# Altium integrated library Microchip Thermal Management.IntLib: 360 symbols (part 9 of 10)
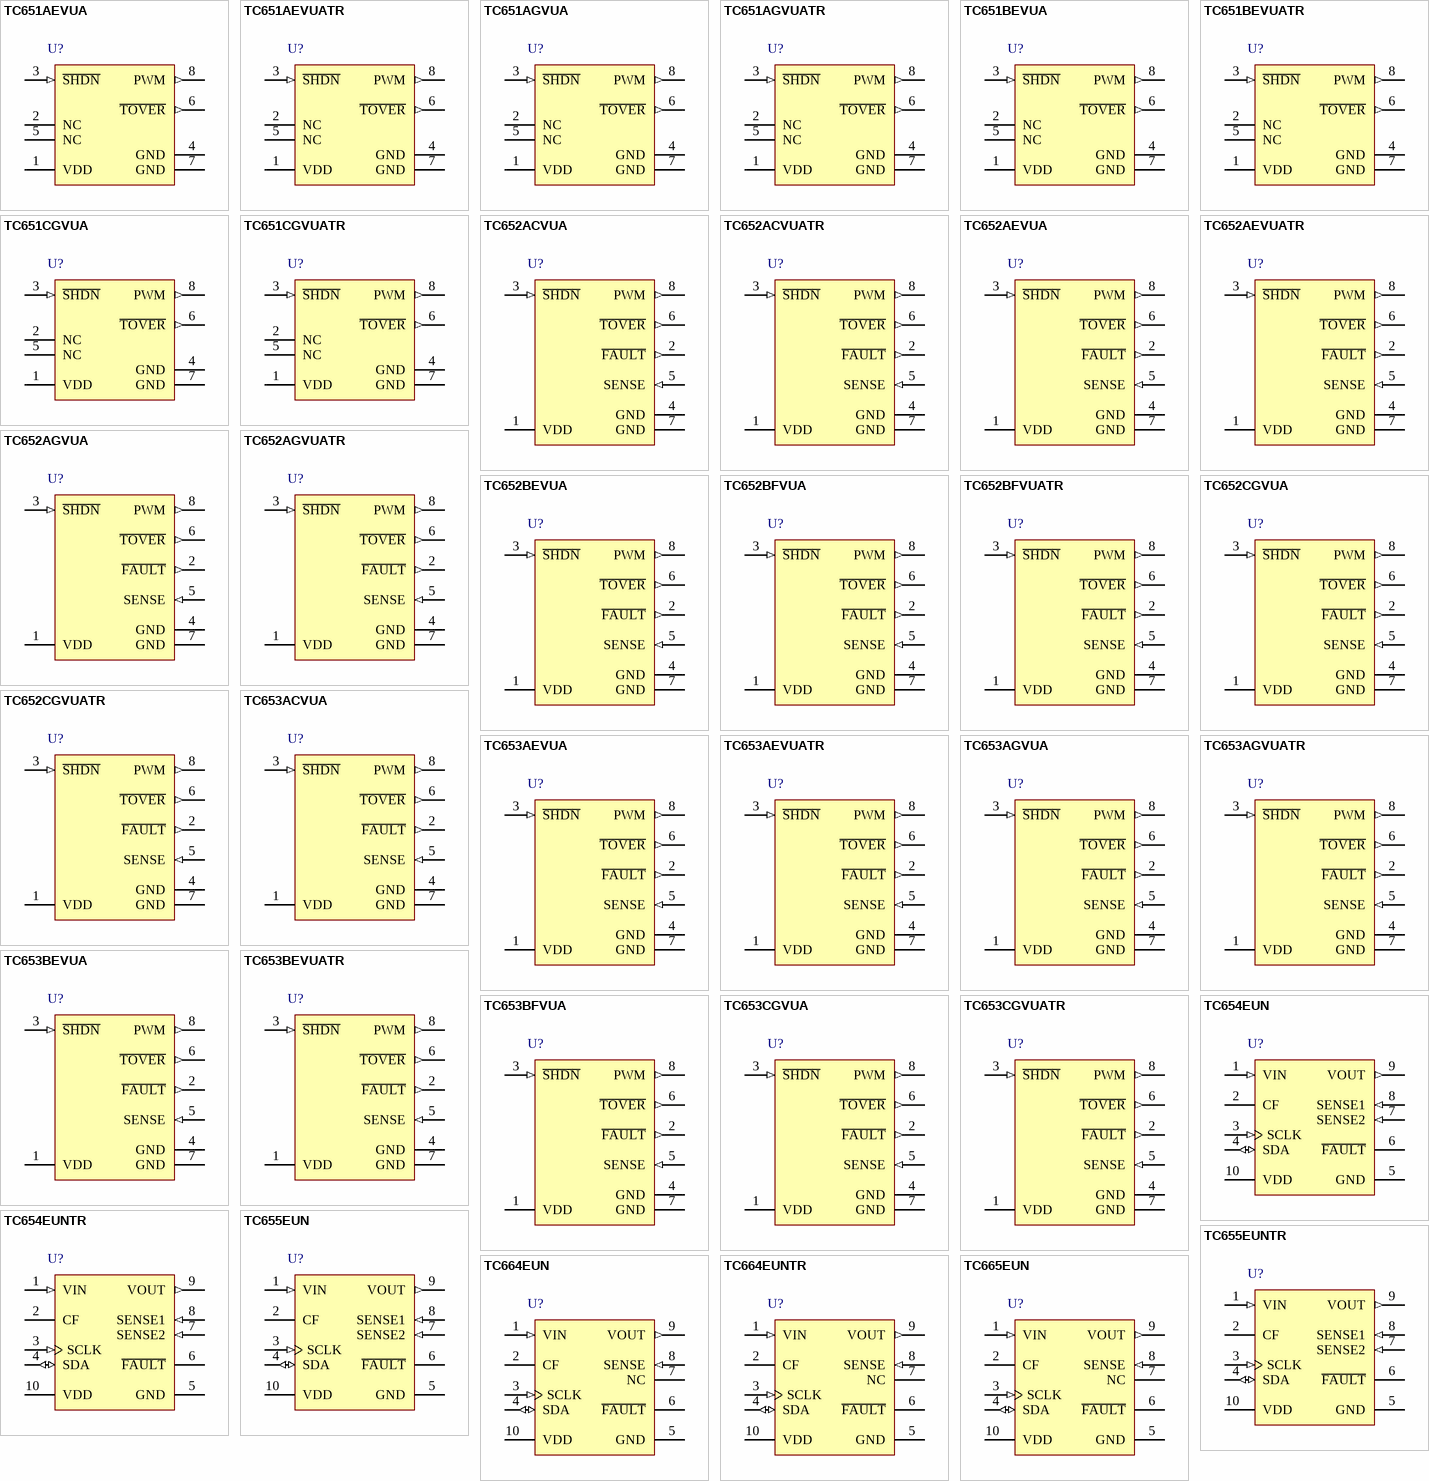
[diagram p17: symbols TC651AEVUA to TC665EUN]

## TC653AEVUATR
designator U?
Integrated Temperature Sensor & Brushless DC Fan Controller with FanSense Detect & Over-Temperature, 8-Pin MSOP, Extended Temperature, Tape and Reel; Manufacturer: Microchip; PartNumber: TC653AEVUATR; DatasheetVersion: revB, May-2002; PackageVersion: revBB, Aug-2009; PackageReference: MSOP-UA8; PackageDescription: 8-Lead Plastic Micro Small Outline Package (UA) [MSOP]; Supplier 1: Digi-Key; Supplier Part Number 1: TC653AEVUATR-ND; Supplier 2: Mouser; Supplier Part Number 2: 579-TC653AEVUATR; Mounting Technology: Surface Mount; Code_JEDEC: MO-187-AA; ComponentLink1Description: Manufacturer URL; ComponentLink1URL: http://www.microchip.com/; ComponentLink2Description: Datasheet; ComponentLink2URL: http://ww1.microchip.com/downloads/en/DeviceDoc/21452b.pdf; ComponentLink3Description: Package Specification; ComponentLink3URL: http://www.microchip.com/stellent/groups/techpub_sg/documents/packagingspec/en012702.pdf
footprint MSOP-UA8_N (TSOP, 8-Leads, Body 3x3mm, Pitch 0.65mm, IPC Medium Density)
footprint MSOP-UA8_L (TSOP, 8-Leads, Body 3x3mm, Pitch 0.65mm, IPC High Density)
footprint MSOP-UA8_M (TSOP, 8-Leads, Body 3x3mm, Pitch 0.65mm, IPC Low Density)
pins: 1 VDD (power), 2 ~{FAULT} (out), 3 ~{SHDN} (in), 4 GND (power), 5 SENSE (in), 6 ~{TOVER} (out), 7 GND (power), 8 PWM (out)

## TC653AGVUA
designator U?
Integrated Temperature Sensor & Brushless DC Fan Controller with FanSense Detect & Over-Temperature, 8-Pin MSOP, Extended Temperature; Manufacturer: Microchip; PartNumber: TC653AGVUA; DatasheetVersion: revB, May-2002; PackageVersion: revBB, Aug-2009; PackageReference: MSOP-UA8; PackageDescription: 8-Lead Plastic Micro Small Outline Package (UA) [MSOP]; Supplier 1: Digi-Key; Supplier Part Number 1: TC653AGVUA-ND; Supplier 2: Newark; Supplier Part Number 2: 92C6422; Supplier 3: Mouser; Supplier Part Number 3: 579-TC653AGVUA; Mounting Technology: Surface Mount; Code_JEDEC: MO-187-AA; ComponentLink1Description: Manufacturer URL; ComponentLink1URL: http://www.microchip.com/; ComponentLink2Description: Datasheet; ComponentLink2URL: http://ww1.microchip.com/downloads/en/DeviceDoc/21452b.pdf; ComponentLink3Description: Package Specification; ComponentLink3URL: http://www.microchip.com/stellent/groups/techpub_sg/documents/packagingspec/en012702.pdf
footprint MSOP-UA8_N (TSOP, 8-Leads, Body 3x3mm, Pitch 0.65mm, IPC Medium Density)
footprint MSOP-UA8_L (TSOP, 8-Leads, Body 3x3mm, Pitch 0.65mm, IPC High Density)
footprint MSOP-UA8_M (TSOP, 8-Leads, Body 3x3mm, Pitch 0.65mm, IPC Low Density)
pins: 1 VDD (power), 2 ~{FAULT} (out), 3 ~{SHDN} (in), 4 GND (power), 5 SENSE (in), 6 ~{TOVER} (out), 7 GND (power), 8 PWM (out)

## TC653AGVUATR
designator U?
Integrated Temperature Sensor & Brushless DC Fan Controller with FanSense Detect & Over-Temperature, 8-Pin MSOP, Extended Temperature, Tape and Reel; Manufacturer: Microchip; PartNumber: TC653AGVUATR; DatasheetVersion: revB, May-2002; PackageVersion: revBB, Aug-2009; PackageReference: MSOP-UA8; PackageDescription: 8-Lead Plastic Micro Small Outline Package (UA) [MSOP]; Supplier 1: Digi-Key; Supplier Part Number 1: TC653AGVUATR-ND; Supplier 2: Mouser; Supplier Part Number 2: 579-TC653AGVUATR; Mounting Technology: Surface Mount; Code_JEDEC: MO-187-AA; ComponentLink1Description: Manufacturer URL; ComponentLink1URL: http://www.microchip.com/; ComponentLink2Description: Datasheet; ComponentLink2URL: http://ww1.microchip.com/downloads/en/DeviceDoc/21452b.pdf; ComponentLink3Description: Package Specification; ComponentLink3URL: http://www.microchip.com/stellent/groups/techpub_sg/documents/packagingspec/en012702.pdf
footprint MSOP-UA8_N (TSOP, 8-Leads, Body 3x3mm, Pitch 0.65mm, IPC Medium Density)
footprint MSOP-UA8_L (TSOP, 8-Leads, Body 3x3mm, Pitch 0.65mm, IPC High Density)
footprint MSOP-UA8_M (TSOP, 8-Leads, Body 3x3mm, Pitch 0.65mm, IPC Low Density)
pins: 1 VDD (power), 2 ~{FAULT} (out), 3 ~{SHDN} (in), 4 GND (power), 5 SENSE (in), 6 ~{TOVER} (out), 7 GND (power), 8 PWM (out)

## TC653BEVUA
designator U?
Integrated Temperature Sensor & Brushless DC Fan Controller with FanSense Detect & Over-Temperature, 8-Pin MSOP, Extended Temperature; Manufacturer: Microchip; PartNumber: TC653BEVUA; DatasheetVersion: revB, May-2002; PackageVersion: revBB, Aug-2009; PackageReference: MSOP-UA8; PackageDescription: 8-Lead Plastic Micro Small Outline Package (UA) [MSOP]; Supplier 1: Digi-Key; Supplier Part Number 1: TC653BEVUA-ND; Supplier 2: Mouser; Supplier Part Number 2: 579-TC653BEVUA; Mounting Technology: Surface Mount; Code_JEDEC: MO-187-AA; ComponentLink1Description: Manufacturer URL; ComponentLink1URL: http://www.microchip.com/; ComponentLink2Description: Datasheet; ComponentLink2URL: http://ww1.microchip.com/downloads/en/DeviceDoc/21452b.pdf; ComponentLink3Description: Package Specification; ComponentLink3URL: http://www.microchip.com/stellent/groups/techpub_sg/documents/packagingspec/en012702.pdf
footprint MSOP-UA8_N (TSOP, 8-Leads, Body 3x3mm, Pitch 0.65mm, IPC Medium Density)
footprint MSOP-UA8_L (TSOP, 8-Leads, Body 3x3mm, Pitch 0.65mm, IPC High Density)
footprint MSOP-UA8_M (TSOP, 8-Leads, Body 3x3mm, Pitch 0.65mm, IPC Low Density)
pins: 1 VDD (power), 2 ~{FAULT} (out), 3 ~{SHDN} (in), 4 GND (power), 5 SENSE (in), 6 ~{TOVER} (out), 7 GND (power), 8 PWM (out)

## TC653BEVUATR
designator U?
Integrated Temperature Sensor & Brushless DC Fan Controller with FanSense Detect & Over-Temperature, 8-Pin MSOP, Extended Temperature, Tape and Reel; Manufacturer: Microchip; PartNumber: TC653BEVUATR; DatasheetVersion: revB, May-2002; PackageVersion: revBB, Aug-2009; PackageReference: MSOP-UA8; PackageDescription: 8-Lead Plastic Micro Small Outline Package (UA) [MSOP]; Supplier 1: Digi-Key; Supplier Part Number 1: TC653BEVUATR-ND; Supplier 2: Mouser; Supplier Part Number 2: 579-TC653BEVUATR; Mounting Technology: Surface Mount; Code_JEDEC: MO-187-AA; ComponentLink1Description: Manufacturer URL; ComponentLink1URL: http://www.microchip.com/; ComponentLink2Description: Datasheet; ComponentLink2URL: http://ww1.microchip.com/downloads/en/DeviceDoc/21452b.pdf; ComponentLink3Description: Package Specification; ComponentLink3URL: http://www.microchip.com/stellent/groups/techpub_sg/documents/packagingspec/en012702.pdf
footprint MSOP-UA8_N (TSOP, 8-Leads, Body 3x3mm, Pitch 0.65mm, IPC Medium Density)
footprint MSOP-UA8_L (TSOP, 8-Leads, Body 3x3mm, Pitch 0.65mm, IPC High Density)
footprint MSOP-UA8_M (TSOP, 8-Leads, Body 3x3mm, Pitch 0.65mm, IPC Low Density)
pins: 1 VDD (power), 2 ~{FAULT} (out), 3 ~{SHDN} (in), 4 GND (power), 5 SENSE (in), 6 ~{TOVER} (out), 7 GND (power), 8 PWM (out)

## TC653BFVUA
designator U?
Integrated Temperature Sensor & Brushless DC Fan Controller with FanSense Detect & Over-Temperature, 8-Pin MSOP, Extended Temperature; Manufacturer: Microchip; PartNumber: TC653BFVUA; DatasheetVersion: revB, May-2002; PackageVersion: revBB, Aug-2009; PackageReference: MSOP-UA8; PackageDescription: 8-Lead Plastic Micro Small Outline Package (UA) [MSOP]; Supplier 1: Digi-Key; Supplier Part Number 1: TC653BFVUA-ND; Supplier 2: Mouser; Supplier Part Number 2: 579-TC653BFVUA; Mounting Technology: Surface Mount; Code_JEDEC: MO-187-AA; ComponentLink1Description: Manufacturer URL; ComponentLink1URL: http://www.microchip.com/; ComponentLink2Description: Datasheet; ComponentLink2URL: http://ww1.microchip.com/downloads/en/DeviceDoc/21452b.pdf; ComponentLink3Description: Package Specification; ComponentLink3URL: http://www.microchip.com/stellent/groups/techpub_sg/documents/packagingspec/en012702.pdf
footprint MSOP-UA8_N (TSOP, 8-Leads, Body 3x3mm, Pitch 0.65mm, IPC Medium Density)
footprint MSOP-UA8_L (TSOP, 8-Leads, Body 3x3mm, Pitch 0.65mm, IPC High Density)
footprint MSOP-UA8_M (TSOP, 8-Leads, Body 3x3mm, Pitch 0.65mm, IPC Low Density)
pins: 1 VDD (power), 2 ~{FAULT} (out), 3 ~{SHDN} (in), 4 GND (power), 5 SENSE (in), 6 ~{TOVER} (out), 7 GND (power), 8 PWM (out)

## TC653CGVUA
designator U?
Integrated Temperature Sensor & Brushless DC Fan Controller with FanSense Detect & Over-Temperature, 8-Pin MSOP, Extended Temperature; Manufacturer: Microchip; PartNumber: TC653CGVUA; DatasheetVersion: revB, May-2002; PackageVersion: revBB, Aug-2009; PackageReference: MSOP-UA8; PackageDescription: 8-Lead Plastic Micro Small Outline Package (UA) [MSOP]; Supplier 1: Digi-Key; Supplier Part Number 1: TC653CGVUA-ND; Supplier 2: Newark; Supplier Part Number 2: 92C6429; Supplier 3: Mouser; Supplier Part Number 3: 579-TC653CGVUA; Mounting Technology: Surface Mount; Code_JEDEC: MO-187-AA; ComponentLink1Description: Manufacturer URL; ComponentLink1URL: http://www.microchip.com/; ComponentLink2Description: Datasheet; ComponentLink2URL: http://ww1.microchip.com/downloads/en/DeviceDoc/21452b.pdf; ComponentLink3Description: Package Specification; ComponentLink3URL: http://www.microchip.com/stellent/groups/techpub_sg/documents/packagingspec/en012702.pdf
footprint MSOP-UA8_N (TSOP, 8-Leads, Body 3x3mm, Pitch 0.65mm, IPC Medium Density)
footprint MSOP-UA8_L (TSOP, 8-Leads, Body 3x3mm, Pitch 0.65mm, IPC High Density)
footprint MSOP-UA8_M (TSOP, 8-Leads, Body 3x3mm, Pitch 0.65mm, IPC Low Density)
pins: 1 VDD (power), 2 ~{FAULT} (out), 3 ~{SHDN} (in), 4 GND (power), 5 SENSE (in), 6 ~{TOVER} (out), 7 GND (power), 8 PWM (out)

## TC653CGVUATR
designator U?
Integrated Temperature Sensor & Brushless DC Fan Controller with FanSense Detect & Over-Temperature, 8-Pin MSOP, Extended Temperature, Tape and Reel; Manufacturer: Microchip; PartNumber: TC653CGVUATR; DatasheetVersion: revB, May-2002; PackageVersion: revBB, Aug-2009; PackageReference: MSOP-UA8; PackageDescription: 8-Lead Plastic Micro Small Outline Package (UA) [MSOP]; Supplier 1: Digi-Key; Supplier Part Number 1: TC653CGVUATR-ND; Supplier 2: Newark; Supplier Part Number 2: 92C6430; Supplier 3: Mouser; Supplier Part Number 3: 579-TC653CGVUATR; Mounting Technology: Surface Mount; Code_JEDEC: MO-187-AA; ComponentLink1Description: Manufacturer URL; ComponentLink1URL: http://www.microchip.com/; ComponentLink2Description: Datasheet; ComponentLink2URL: http://ww1.microchip.com/downloads/en/DeviceDoc/21452b.pdf; ComponentLink3Description: Package Specification; ComponentLink3URL: http://www.microchip.com/stellent/groups/techpub_sg/documents/packagingspec/en012702.pdf
footprint MSOP-UA8_N (TSOP, 8-Leads, Body 3x3mm, Pitch 0.65mm, IPC Medium Density)
footprint MSOP-UA8_L (TSOP, 8-Leads, Body 3x3mm, Pitch 0.65mm, IPC High Density)
footprint MSOP-UA8_M (TSOP, 8-Leads, Body 3x3mm, Pitch 0.65mm, IPC Low Density)
pins: 1 VDD (power), 2 ~{FAULT} (out), 3 ~{SHDN} (in), 4 GND (power), 5 SENSE (in), 6 ~{TOVER} (out), 7 GND (power), 8 PWM (out)

## TC654EUN
designator U?
Dual SMBus PWM Fan Speed Controller with Fan Fault Detection, 10-Pin MSOP, Industrial Temperature; Manufacturer: Microchip; PartNumber: TC654EUN; DatasheetVersion: revA, Feb-2003; PackageVersion: revBB, Aug-2009; PackageReference: MSOP-UN10; PackageDescription: 10-Lead Plastic Micro Small Outline Package (UN) [MSOP]; Supplier 1: Digi-Key; Supplier Part Number 1: TC654EUN-ND; Supplier 2: Farnell; Supplier Part Number 2: 1852288; Supplier 3: Newark; Supplier Part Number 3: 72C4372; Supplier 4: Mouser; Supplier Part Number 4: 579-TC654EUN; Mounting Technology: Surface Mount; ComponentLink1Description: Manufacturer URL; ComponentLink1URL: http://www.microchip.com/; ComponentLink2Description: Datasheet; ComponentLink2URL: http://ww1.microchip.com/downloads/en/DeviceDoc/21734a.pdf; ComponentLink3Description: Package Specification; ComponentLink3URL: http://www.microchip.com/stellent/groups/techpub_sg/documents/packagingspec/en012702.pdf
footprint MSOP-UN10_N (TSSOP, 10-Leads, Body 3x3mm, Pitch 0.5mm, IPC Medium Density)
footprint MSOP-UN10_L (TSSOP, 10-Leads, Body 3x3mm, Pitch 0.5mm, IPC High Density)
footprint MSOP-UN10_M (TSSOP, 10-Leads, Body 3x3mm, Pitch 0.5mm, IPC Low Density)
pins: 1 VIN (in), 2 CF, 3 SCLK (in), 4 SDA (io), 5 GND (power), 6 ~{FAULT} (oc), 7 SENSE2 (in), 8 SENSE1 (in), 9 VOUT (out), 10 VDD (power)

## TC654EUNTR
designator U?
Dual SMBus PWM Fan Speed Controller with Fan Fault Detection, 10-Pin MSOP, Industrial Temperature, Tape and Reel; Manufacturer: Microchip; PartNumber: TC654EUNTR; DatasheetVersion: revA, Feb-2003; PackageVersion: revBB, Aug-2009; PackageReference: MSOP-UN10; PackageDescription: 10-Lead Plastic Micro Small Outline Package (UN) [MSOP]; Supplier 1: Digi-Key; Supplier Part Number 1: TC654EUNTR-ND; Supplier 2: Newark; Supplier Part Number 2: 72C4373; Supplier 3: Mouser; Supplier Part Number 3: 579-TC654EUNTR; Mounting Technology: Surface Mount; ComponentLink1Description: Manufacturer URL; ComponentLink1URL: http://www.microchip.com/; ComponentLink2Description: Datasheet; ComponentLink2URL: http://ww1.microchip.com/downloads/en/DeviceDoc/21734a.pdf; ComponentLink3Description: Package Specification; ComponentLink3URL: http://www.microchip.com/stellent/groups/techpub_sg/documents/packagingspec/en012702.pdf
footprint MSOP-UN10_N (TSSOP, 10-Leads, Body 3x3mm, Pitch 0.5mm, IPC Medium Density)
footprint MSOP-UN10_L (TSSOP, 10-Leads, Body 3x3mm, Pitch 0.5mm, IPC High Density)
footprint MSOP-UN10_M (TSSOP, 10-Leads, Body 3x3mm, Pitch 0.5mm, IPC Low Density)
pins: 1 VIN (in), 2 CF, 3 SCLK (in), 4 SDA (io), 5 GND (power), 6 ~{FAULT} (oc), 7 SENSE2 (in), 8 SENSE1 (in), 9 VOUT (out), 10 VDD (power)

## TC655EUN
designator U?
Dual SMBus PWM Fan Speed Controller with Fan Fault Detection, 10-Pin MSOP, Industrial Temperature; Manufacturer: Microchip; PartNumber: TC655EUN; DatasheetVersion: revA, Feb-2003; PackageVersion: revBB, Aug-2009; PackageReference: MSOP-UN10; PackageDescription: 10-Lead Plastic Micro Small Outline Package (UN) [MSOP]; Supplier 1: Digi-Key; Supplier Part Number 1: TC655EUN-ND; Supplier 2: Farnell; Supplier Part Number 2: 1852289; Supplier 3: Newark; Supplier Part Number 3: 72C4374; Supplier 4: Mouser; Supplier Part Number 4: 579-TC655EUN; Mounting Technology: Surface Mount; ComponentLink1Description: Manufacturer URL; ComponentLink1URL: http://www.microchip.com/; ComponentLink2Description: Datasheet; ComponentLink2URL: http://ww1.microchip.com/downloads/en/DeviceDoc/21734a.pdf; ComponentLink3Description: Package Specification; ComponentLink3URL: http://www.microchip.com/stellent/groups/techpub_sg/documents/packagingspec/en012702.pdf
footprint MSOP-UN10_N (TSSOP, 10-Leads, Body 3x3mm, Pitch 0.5mm, IPC Medium Density)
footprint MSOP-UN10_L (TSSOP, 10-Leads, Body 3x3mm, Pitch 0.5mm, IPC High Density)
footprint MSOP-UN10_M (TSSOP, 10-Leads, Body 3x3mm, Pitch 0.5mm, IPC Low Density)
pins: 1 VIN (in), 2 CF, 3 SCLK (in), 4 SDA (io), 5 GND (power), 6 ~{FAULT} (oc), 7 SENSE2 (in), 8 SENSE1 (in), 9 VOUT (out), 10 VDD (power)

## TC655EUNTR
designator U?
Dual SMBus PWM Fan Speed Controller with Fan Fault Detection, 10-Pin MSOP, Industrial Temperature, Tape and Reel; Manufacturer: Microchip; PartNumber: TC655EUNTR; DatasheetVersion: revA, Feb-2003; PackageVersion: revBB, Aug-2009; PackageReference: MSOP-UN10; PackageDescription: 10-Lead Plastic Micro Small Outline Package (UN) [MSOP]; Supplier 1: Digi-Key; Supplier Part Number 1: TC655EUNTR-ND; Supplier 2: Mouser; Supplier Part Number 2: 579-TC655EUNTR; Mounting Technology: Surface Mount; ComponentLink1Description: Manufacturer URL; ComponentLink1URL: http://www.microchip.com/; ComponentLink2Description: Datasheet; ComponentLink2URL: http://ww1.microchip.com/downloads/en/DeviceDoc/21734a.pdf; ComponentLink3Description: Package Specification; ComponentLink3URL: http://www.microchip.com/stellent/groups/techpub_sg/documents/packagingspec/en012702.pdf
footprint MSOP-UN10_N (TSSOP, 10-Leads, Body 3x3mm, Pitch 0.5mm, IPC Medium Density)
footprint MSOP-UN10_L (TSSOP, 10-Leads, Body 3x3mm, Pitch 0.5mm, IPC High Density)
footprint MSOP-UN10_M (TSSOP, 10-Leads, Body 3x3mm, Pitch 0.5mm, IPC Low Density)
pins: 1 VIN (in), 2 CF, 3 SCLK (in), 4 SDA (io), 5 GND (power), 6 ~{FAULT} (oc), 7 SENSE2 (in), 8 SENSE1 (in), 9 VOUT (out), 10 VDD (power)

## TC664EUN
designator U?
SMBus PWM Fan Speed Controllers with Fan Fault Detection, 10-Pin MSOP, Industrial Temperature; Manufacturer: Microchip; PartNumber: TC664EUN; DatasheetVersion: revA, Feb-2003; PackageVersion: revBB, Aug-2009; PackageReference: MSOP-UN10; PackageDescription: 10-Lead Plastic Micro Small Outline Package (UN) [MSOP]; Supplier 1: Digi-Key; Supplier Part Number 1: TC664EUN-ND; Supplier 2: Farnell; Supplier Part Number 2: 1852290; Supplier 3: Newark; Supplier Part Number 3: 92C6431; Supplier 4: Mouser; Supplier Part Number 4: 579-TC664EUN; Mounting Technology: Surface Mount; ComponentLink1Description: Manufacturer URL; ComponentLink1URL: http://www.microchip.com/; ComponentLink2Description: Datasheet; ComponentLink2URL: http://ww1.microchip.com/downloads/en/DeviceDoc/21737a.pdf; ComponentLink3Description: Package Specification; ComponentLink3URL: http://www.microchip.com/stellent/groups/techpub_sg/documents/packagingspec/en012702.pdf
footprint MSOP-UN10_N (TSSOP, 10-Leads, Body 3x3mm, Pitch 0.5mm, IPC Medium Density)
footprint MSOP-UN10_L (TSSOP, 10-Leads, Body 3x3mm, Pitch 0.5mm, IPC High Density)
footprint MSOP-UN10_M (TSSOP, 10-Leads, Body 3x3mm, Pitch 0.5mm, IPC Low Density)
pins: 1 VIN (in), 2 CF, 3 SCLK (in), 4 SDA (io), 5 GND (power), 6 ~{FAULT} (oc), 7 NC, 8 SENSE (in), 9 VOUT (out), 10 VDD (power)

## TC664EUNTR
designator U?
SMBus PWM Fan Speed Controllers with Fan Fault Detection, 10-Pin MSOP, Industrial Temperature, Tape and Reel; Manufacturer: Microchip; PartNumber: TC664EUNTR; DatasheetVersion: revA, Feb-2003; PackageVersion: revBB, Aug-2009; PackageReference: MSOP-UN10; PackageDescription: 10-Lead Plastic Micro Small Outline Package (UN) [MSOP]; Supplier 1: Digi-Key; Supplier Part Number 1: TC664EUNTR-ND; Supplier 2: Mouser; Supplier Part Number 2: 579-TC664EUNTR; Mounting Technology: Surface Mount; ComponentLink1Description: Manufacturer URL; ComponentLink1URL: http://www.microchip.com/; ComponentLink2Description: Datasheet; ComponentLink2URL: http://ww1.microchip.com/downloads/en/DeviceDoc/21737a.pdf; ComponentLink3Description: Package Specification; ComponentLink3URL: http://www.microchip.com/stellent/groups/techpub_sg/documents/packagingspec/en012702.pdf
footprint MSOP-UN10_N (TSSOP, 10-Leads, Body 3x3mm, Pitch 0.5mm, IPC Medium Density)
footprint MSOP-UN10_L (TSSOP, 10-Leads, Body 3x3mm, Pitch 0.5mm, IPC High Density)
footprint MSOP-UN10_M (TSSOP, 10-Leads, Body 3x3mm, Pitch 0.5mm, IPC Low Density)
pins: 1 VIN (in), 2 CF, 3 SCLK (in), 4 SDA (io), 5 GND (power), 6 ~{FAULT} (oc), 7 NC, 8 SENSE (in), 9 VOUT (out), 10 VDD (power)

## TC665EUN
designator U?
SMBus PWM Fan Speed Controllers with Fan Fault Detection, 10-Pin MSOP, Industrial Temperature; Manufacturer: Microchip; PartNumber: TC665EUN; DatasheetVersion: revA, Feb-2003; PackageVersion: revBB, Aug-2009; PackageReference: MSOP-UN10; PackageDescription: 10-Lead Plastic Micro Small Outline Package (UN) [MSOP]; Supplier 1: Digi-Key; Supplier Part Number 1: TC665EUN-ND; Supplier 2: Farnell; Supplier Part Number 2: 1852291; Supplier 3: Newark; Supplier Part Number 3: 92C6433; Supplier 4: Mouser; Supplier Part Number 4: 579-TC665EUN; Mounting Technology: Surface Mount; ComponentLink1Description: Manufacturer URL; ComponentLink1URL: http://www.microchip.com/; ComponentLink2Description: Datasheet; ComponentLink2URL: http://ww1.microchip.com/downloads/en/DeviceDoc/21737a.pdf; ComponentLink3Description: Package Specification; ComponentLink3URL: http://www.microchip.com/stellent/groups/techpub_sg/documents/packagingspec/en012702.pdf
footprint MSOP-UN10_N (TSSOP, 10-Leads, Body 3x3mm, Pitch 0.5mm, IPC Medium Density)
footprint MSOP-UN10_L (TSSOP, 10-Leads, Body 3x3mm, Pitch 0.5mm, IPC High Density)
footprint MSOP-UN10_M (TSSOP, 10-Leads, Body 3x3mm, Pitch 0.5mm, IPC Low Density)
pins: 1 VIN (in), 2 CF, 3 SCLK (in), 4 SDA (io), 5 GND (power), 6 ~{FAULT} (oc), 7 NC, 8 SENSE (in), 9 VOUT (out), 10 VDD (power)

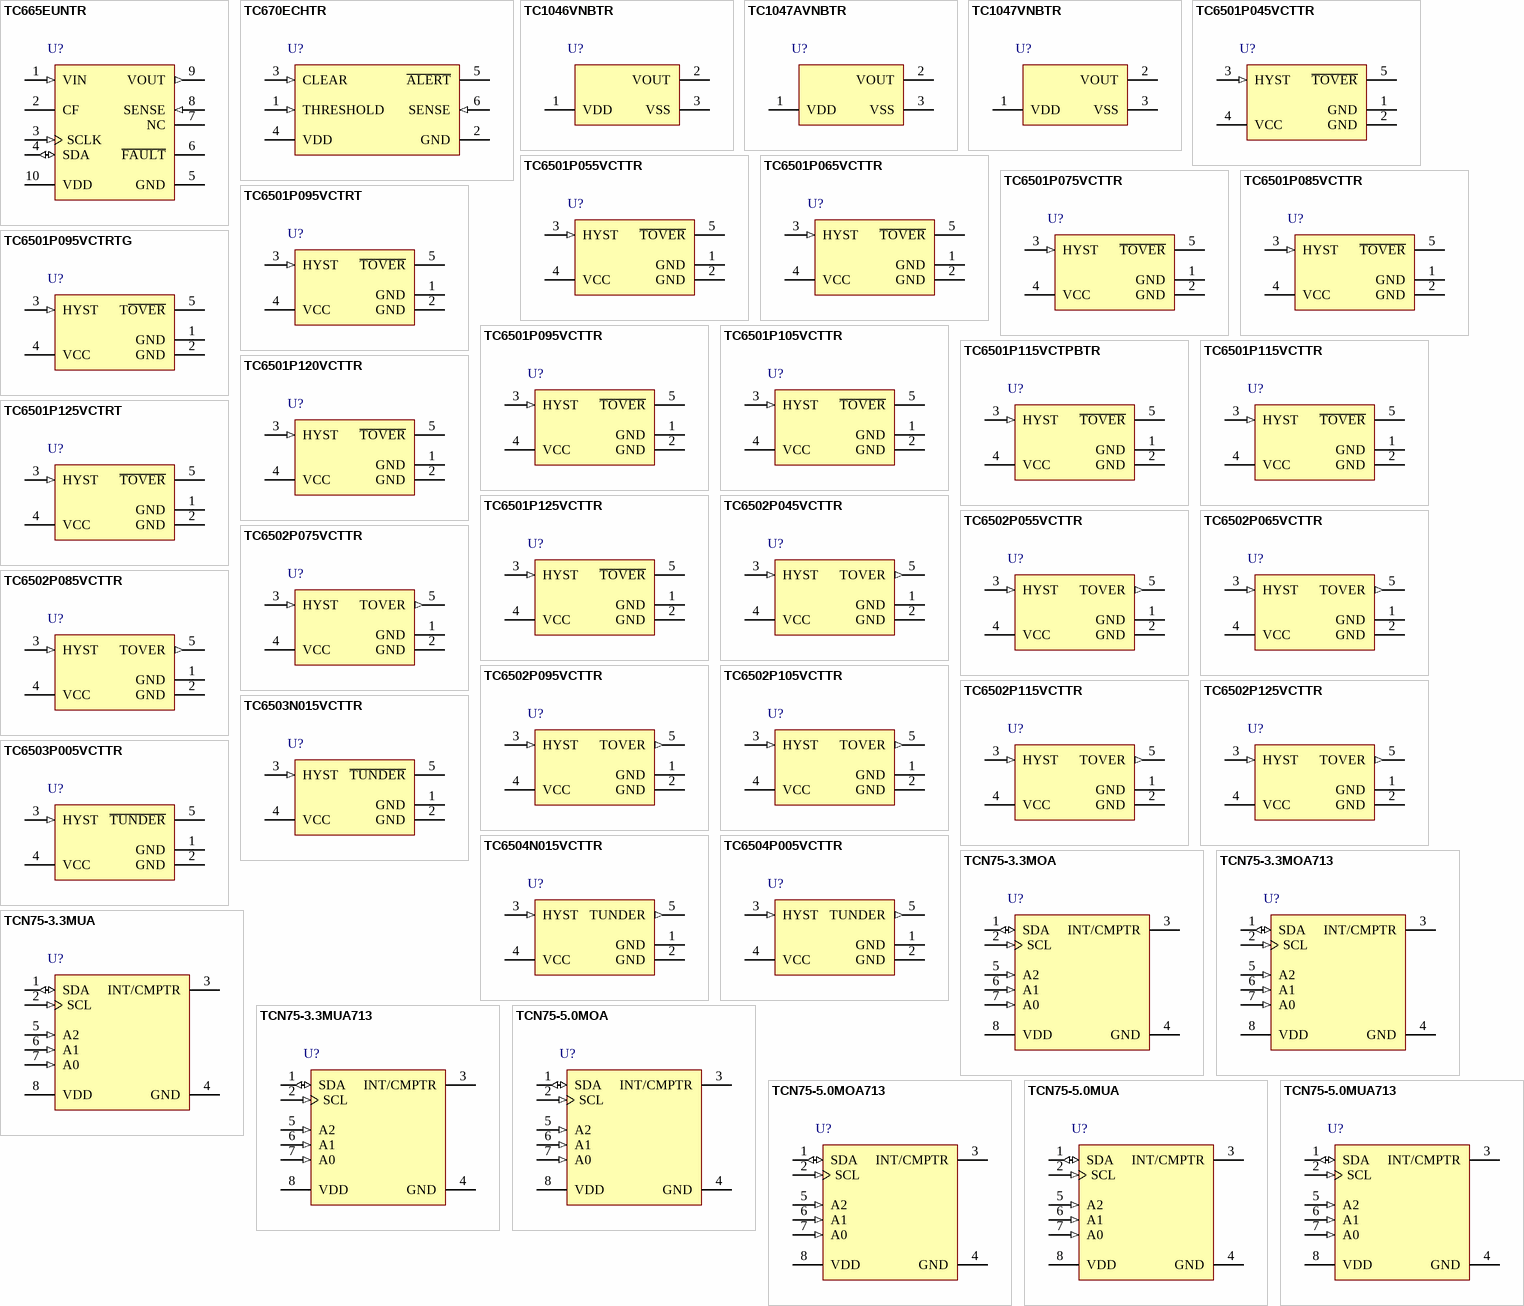
[diagram p8: symbols TC665EUNTR to TCN75-5.0MUA713]

## TC665EUNTR
designator U?
SMBus PWM Fan Speed Controllers with Fan Fault Detection, 10-Pin MSOP, Industrial Temperature, Tape and Reel; Manufacturer: Microchip; PartNumber: TC665EUNTR; DatasheetVersion: revA, Feb-2003; PackageVersion: revBB, Aug-2009; PackageReference: MSOP-UN10; PackageDescription: 10-Lead Plastic Micro Small Outline Package (UN) [MSOP]; Supplier 1: Digi-Key; Supplier Part Number 1: TC665EUNTR-ND; Supplier 2: Mouser; Supplier Part Number 2: 579-TC665EUNTR; Mounting Technology: Surface Mount; ComponentLink1Description: Manufacturer URL; ComponentLink1URL: http://www.microchip.com/; ComponentLink2Description: Datasheet; ComponentLink2URL: http://ww1.microchip.com/downloads/en/DeviceDoc/21737a.pdf; ComponentLink3Description: Package Specification; ComponentLink3URL: http://www.microchip.com/stellent/groups/techpub_sg/documents/packagingspec/en012702.pdf
footprint MSOP-UN10_N (TSSOP, 10-Leads, Body 3x3mm, Pitch 0.5mm, IPC Medium Density)
footprint MSOP-UN10_L (TSSOP, 10-Leads, Body 3x3mm, Pitch 0.5mm, IPC High Density)
footprint MSOP-UN10_M (TSSOP, 10-Leads, Body 3x3mm, Pitch 0.5mm, IPC Low Density)
pins: 1 VIN (in), 2 CF, 3 SCLK (in), 4 SDA (io), 5 GND (power), 6 ~{FAULT} (oc), 7 NC, 8 SENSE (in), 9 VOUT (out), 10 VDD (power)

## TC670ECHTR
designator U?
Tiny Predictive Fan Failure Detector, 6-Pin SOT-23, Industrial Temperature, Tape and Reel; Manufacturer: Microchip; PartNumber: TC670ECHTR; DatasheetVersion: revC, Mar-2003; PackageVersion: revBB, Aug-2009; PackageReference: SOT-23-CH6; PackageDescription: 6-Lead Plastic Small Outline Transistor (CH) [SOT-23]; Supplier 1: Digi-Key; Supplier Part Number 1: TC670ECHTRTR-ND; Supplier 2: Digi-Key; Supplier Part Number 2: TC670ECHTRCT-ND; Supplier 3: Digi-Key; Supplier Part Number 3: TC670ECHTRDKR-ND; Supplier 4: Newark; Supplier Part Number 4: 92C2504; Supplier 5: Mouser; Supplier Part Number 5: 579-TC670ECHTR; Mounting Technology: Surface Mount; Code_IPC: SOT26A-6; ComponentLink1Description: Manufacturer URL; ComponentLink1URL: http://www.microchip.com/; ComponentLink2Description: Datasheet; ComponentLink2URL: http://ww1.microchip.com/downloads/en/DeviceDoc/21688c.pdf; ComponentLink3Description: Package Specification; ComponentLink3URL: http://www.microchip.com/stellent/groups/techpub_sg/documents/packagingspec/en012702.pdf
footprint SOT-23-CH6_N (SOT23, 6-Leads, Body 2.9x1.6mm, Pitch 0.95mm, Lead Span 2.7mm, IPC Medium Density)
footprint SOT-23-CH6_L (SOT23, 6-Leads, Body 2.9x1.6mm, Pitch 0.95mm, Lead Span 2.7mm, IPC High Density)
footprint SOT-23-CH6_M (SOT23, 6-Leads, Body 2.9x1.6mm, Pitch 0.95mm, Lead Span 2.7mm, IPC Low Density)
pins: 1 THRESHOLD (in), 2 GND (power), 3 CLEAR (in), 4 VDD (power), 5 ~{ALERT} (oc), 6 SENSE (in)

## TC1046VNBTR
designator U?
High Precision Temperature-to-Voltage Converter, 3-Pin SOT-23, Extended Temperature, Tape and Reel; Manufacturer: Microchip; PartNumber: TC1046VNBTR; DatasheetVersion: revB, Feb-2003; PackageVersion: revBB, Aug-2009; PackageReference: SOT-23-NB3; PackageDescription: 3-Lead Plastic Small Outline Transistor (NB) [SOT-23]; Supplier 1: Digi-Key; Supplier Part Number 1: TC1046VNBTRTR-ND; Supplier 2: Digi-Key; Supplier Part Number 2: TC1046VNBTRCT-ND; Supplier 3: Digi-Key; Supplier Part Number 3: TC1046VNBTRDKR-ND; Supplier 4: Farnell; Supplier Part Number 4: 1212685; Supplier 5: Farnell; Supplier Part Number 5: 1212685RL; Supplier 6: Newark; Supplier Part Number 6: 89C8092; Supplier 7: Mouser; Supplier Part Number 7: 579-TC1046VNBTR; Mounting Technology: Surface Mount; Code_IPC: SOT23-3; ComponentLink1Description: Manufacturer URL; ComponentLink1URL: http://www.microchip.com/; ComponentLink2Description: Datasheet; ComponentLink2URL: http://ww1.microchip.com/downloads/en/DeviceDoc/21496b.pdf; ComponentLink3Description: Package Specification; ComponentLink3URL: http://www.microchip.com/stellent/groups/techpub_sg/documents/packagingspec/en012702.pdf
footprint SOT-23-NB3_N (SOT23, 3-Leads, Body 2.9x1.3mm, Pitch 0.95mm, Lead Span 2.4mm, IPC Medium Density)
footprint SOT-23-NB3_L (SOT23, 3-Leads, Body 2.9x1.3mm, Pitch 0.95mm, Lead Span 2.4mm, IPC High Density)
footprint SOT-23-NB3_M (SOT23, 3-Leads, Body 2.9x1.3mm, Pitch 0.95mm, Lead Span 2.4mm, IPC Low Density)
pins: 1 VDD (power), 2 VOUT (power), 3 VSS (power)

## TC1047AVNBTR
designator U?
Precision Temperature-to-Voltage Converter, 3-Pin SOT-23, Extended Temperature, Tape and Reel; Manufacturer: Microchip; PartNumber: TC1047AVNBTR; DatasheetVersion: revC, May-2005; PackageVersion: revBB, Aug-2009; PackageReference: SOT-23-NB3; PackageDescription: 3-Lead Plastic Small Outline Transistor (NB) [SOT-23]; Supplier 1: Digi-Key; Supplier Part Number 1: TC1047AVNBTR-ND; Supplier 2: Digi-Key; Supplier Part Number 2: TC1047AVNBCT-ND; Supplier 3: Digi-Key; Supplier Part Number 3: TC1047AVNBDKR-ND; Supplier 4: Farnell; Supplier Part Number 4: 9762531RL; Supplier 5: Farnell; Supplier Part Number 5: 9762531; Supplier 6: Newark; Supplier Part Number 6: 89C8093; Supplier 7: Mouser; Supplier Part Number 7: 579-TC1047AVNBTR; Mounting Technology: Surface Mount; Code_IPC: SOT23-3; ComponentLink1Description: Manufacturer URL; ComponentLink1URL: http://www.microchip.com/; ComponentLink2Description: Datasheet; ComponentLink2URL: http://ww1.microchip.com/downloads/en/DeviceDoc/21498C.pdf; ComponentLink3Description: Package Specification; ComponentLink3URL: http://www.microchip.com/stellent/groups/techpub_sg/documents/packagingspec/en012702.pdf
footprint SOT-23-NB3_N (SOT23, 3-Leads, Body 2.9x1.3mm, Pitch 0.95mm, Lead Span 2.4mm, IPC Medium Density)
footprint SOT-23-NB3_L (SOT23, 3-Leads, Body 2.9x1.3mm, Pitch 0.95mm, Lead Span 2.4mm, IPC High Density)
footprint SOT-23-NB3_M (SOT23, 3-Leads, Body 2.9x1.3mm, Pitch 0.95mm, Lead Span 2.4mm, IPC Low Density)
pins: 1 VDD (power), 2 VOUT (power), 3 VSS (power)

## TC1047VNBTR
designator U?
Precision Temperature-to-Voltage Converter, 3-Pin SOT-23, Extended Temperature, Tape and Reel; Manufacturer: Microchip; PartNumber: TC1047VNBTR; DatasheetVersion: revC, May-2005; PackageVersion: revBB, Aug-2009; PackageReference: SOT-23-NB3; PackageDescription: 3-Lead Plastic Small Outline Transistor (NB) [SOT-23]; Supplier 1: Digi-Key; Supplier Part Number 1: TC1047VNBTR-ND; Supplier 2: Farnell; Supplier Part Number 2: 1557425RL; Supplier 3: Farnell; Supplier Part Number 3: 1557425; Supplier 4: Newark; Supplier Part Number 4: 89C8094; Supplier 5: Mouser; Supplier Part Number 5: 579-TC1047VNBTR; Mounting Technology: Surface Mount; Code_IPC: SOT23-3; ComponentLink1Description: Manufacturer URL; ComponentLink1URL: http://www.microchip.com/; ComponentLink2Description: Datasheet; ComponentLink2URL: http://ww1.microchip.com/downloads/en/DeviceDoc/21498C.pdf; ComponentLink3Description: Package Specification; ComponentLink3URL: http://www.microchip.com/stellent/groups/techpub_sg/documents/packagingspec/en012702.pdf
footprint SOT-23-NB3_N (SOT23, 3-Leads, Body 2.9x1.3mm, Pitch 0.95mm, Lead Span 2.4mm, IPC Medium Density)
footprint SOT-23-NB3_L (SOT23, 3-Leads, Body 2.9x1.3mm, Pitch 0.95mm, Lead Span 2.4mm, IPC High Density)
footprint SOT-23-NB3_M (SOT23, 3-Leads, Body 2.9x1.3mm, Pitch 0.95mm, Lead Span 2.4mm, IPC Low Density)
pins: 1 VDD (power), 2 VOUT (power), 3 VSS (power)

## TC6501P045VCTTR
designator U?
Ultra Small Temperature Switches with Pin Selectable Hysteresis, 5-Pin SOT-23, -55°C to +125°C Temperature, Tape and Reel; Manufacturer: Microchip; PartNumber: TC6501P045VCTTR; DatasheetVersion: revD, Jan-2004; PackageVersion: revBB, Aug-2009; PackageReference: SOT-23-CT5; PackageDescription: 5-Lead Plastic Small Outline Transistor (CT) [SOT-23]; Supplier 1: Digi-Key; Supplier Part Number 1: TC6501P045VCTTR-ND; Supplier 2: Digi-Key; Supplier Part Number 2: TC6501P045VCTCT-ND; Supplier 3: Digi-Key; Supplier Part Number 3: TC6501P045VCTDKR-ND; Supplier 4: Newark; Supplier Part Number 4: 92C6375; Supplier 5: Mouser; Supplier Part Number 5: 579-TC6501P045VCTTR; Mounting Technology: Surface Mount; Code_IPC: SOT23-5; ComponentLink1Description: Manufacturer URL; ComponentLink1URL: http://www.microchip.com/; ComponentLink2Description: Datasheet; ComponentLink2URL: http://ww1.microchip.com/downloads/en/DeviceDoc/21451d.pdf; ComponentLink3Description: Package Specification; ComponentLink3URL: http://www.microchip.com/stellent/groups/techpub_sg/documents/packagingspec/en012702.pdf
footprint SOT-23-CT5_N (SOT23, 5-Leads, Body 2.9x1.6mm, Pitch 0.95mm, Lead Span 2.7mm, IPC Medium Density)
footprint SOT-23-CT5_L (SOT23, 5-Leads, Body 2.9x1.6mm, Pitch 0.95mm, Lead Span 2.7mm, IPC High Density)
footprint SOT-23-CT5_M (SOT23, 5-Leads, Body 2.9x1.6mm, Pitch 0.95mm, Lead Span 2.7mm, IPC Low Density)
pins: 1 GND (power), 2 GND (power), 3 HYST (in), 4 VCC (power), 5 ~{TOVER} (oc)

## TC6501P055VCTTR
designator U?
Ultra Small Temperature Switches with Pin Selectable Hysteresis, 5-Pin SOT-23, -55°C to +125°C Temperature, Tape and Reel; Manufacturer: Microchip; PartNumber: TC6501P055VCTTR; DatasheetVersion: revD, Jan-2004; PackageVersion: revBB, Aug-2009; PackageReference: SOT-23-CT5; PackageDescription: 5-Lead Plastic Small Outline Transistor (CT) [SOT-23]; Supplier 1: Digi-Key; Supplier Part Number 1: TC6501P055VCTTR-ND; Supplier 2: Digi-Key; Supplier Part Number 2: TC6501P055VCTCT-ND; Supplier 3: Digi-Key; Supplier Part Number 3: TC6501P055VCTDKR-ND; Supplier 4: Newark; Supplier Part Number 4: 92C6376; Supplier 5: Mouser; Supplier Part Number 5: 579-TC6501P055VCTTR; Mounting Technology: Surface Mount; Code_IPC: SOT23-5; ComponentLink1Description: Manufacturer URL; ComponentLink1URL: http://www.microchip.com/; ComponentLink2Description: Datasheet; ComponentLink2URL: http://ww1.microchip.com/downloads/en/DeviceDoc/21451d.pdf; ComponentLink3Description: Package Specification; ComponentLink3URL: http://www.microchip.com/stellent/groups/techpub_sg/documents/packagingspec/en012702.pdf
footprint SOT-23-CT5_N (SOT23, 5-Leads, Body 2.9x1.6mm, Pitch 0.95mm, Lead Span 2.7mm, IPC Medium Density)
footprint SOT-23-CT5_L (SOT23, 5-Leads, Body 2.9x1.6mm, Pitch 0.95mm, Lead Span 2.7mm, IPC High Density)
footprint SOT-23-CT5_M (SOT23, 5-Leads, Body 2.9x1.6mm, Pitch 0.95mm, Lead Span 2.7mm, IPC Low Density)
pins: 1 GND (power), 2 GND (power), 3 HYST (in), 4 VCC (power), 5 ~{TOVER} (oc)

## TC6501P065VCTTR
designator U?
Ultra Small Temperature Switches with Pin Selectable Hysteresis, 5-Pin SOT-23, -55°C to +125°C Temperature, Tape and Reel; Manufacturer: Microchip; PartNumber: TC6501P065VCTTR; DatasheetVersion: revD, Jan-2004; PackageVersion: revBB, Aug-2009; PackageReference: SOT-23-CT5; PackageDescription: 5-Lead Plastic Small Outline Transistor (CT) [SOT-23]; Supplier 1: Digi-Key; Supplier Part Number 1: TC6501P065VCTTR-ND; Supplier 2: Digi-Key; Supplier Part Number 2: TC6501P065VCTCT-ND; Supplier 3: Digi-Key; Supplier Part Number 3: TC6501P065VCTDKR-ND; Supplier 4: Farnell; Supplier Part Number 4: 1439494RL; Supplier 5: Farnell; Supplier Part Number 5: 1439494; Supplier 6: Newark; Supplier Part Number 6: 92C6377; Supplier 7: Mouser; Supplier Part Number 7: 579-TC6501P065VCTTR; Mounting Technology: Surface Mount; Code_IPC: SOT23-5; ComponentLink1Description: Manufacturer URL; ComponentLink1URL: http://www.microchip.com/; ComponentLink2Description: Datasheet; ComponentLink2URL: http://ww1.microchip.com/downloads/en/DeviceDoc/21451d.pdf; ComponentLink3Description: Package Specification; ComponentLink3URL: http://www.microchip.com/stellent/groups/techpub_sg/documents/packagingspec/en012702.pdf
footprint SOT-23-CT5_N (SOT23, 5-Leads, Body 2.9x1.6mm, Pitch 0.95mm, Lead Span 2.7mm, IPC Medium Density)
footprint SOT-23-CT5_L (SOT23, 5-Leads, Body 2.9x1.6mm, Pitch 0.95mm, Lead Span 2.7mm, IPC High Density)
footprint SOT-23-CT5_M (SOT23, 5-Leads, Body 2.9x1.6mm, Pitch 0.95mm, Lead Span 2.7mm, IPC Low Density)
pins: 1 GND (power), 2 GND (power), 3 HYST (in), 4 VCC (power), 5 ~{TOVER} (oc)

## TC6501P075VCTTR
designator U?
Ultra Small Temperature Switches with Pin Selectable Hysteresis, 5-Pin SOT-23, -55°C to +125°C Temperature, Tape and Reel; Manufacturer: Microchip; PartNumber: TC6501P075VCTTR; DatasheetVersion: revD, Jan-2004; PackageVersion: revBB, Aug-2009; PackageReference: SOT-23-CT5; PackageDescription: 5-Lead Plastic Small Outline Transistor (CT) [SOT-23]; Supplier 1: Digi-Key; Supplier Part Number 1: TC6501P075VCTTR-ND; Supplier 2: Digi-Key; Supplier Part Number 2: TC6501P075VCTCT-ND; Supplier 3: Digi-Key; Supplier Part Number 3: TC6501P075VCTDKR-ND; Supplier 4: Newark; Supplier Part Number 4: 92C6378; Supplier 5: Mouser; Supplier Part Number 5: 579-TC6501P075VCTTR; Mounting Technology: Surface Mount; Code_IPC: SOT23-5; ComponentLink1Description: Manufacturer URL; ComponentLink1URL: http://www.microchip.com/; ComponentLink2Description: Datasheet; ComponentLink2URL: http://ww1.microchip.com/downloads/en/DeviceDoc/21451d.pdf; ComponentLink3Description: Package Specification; ComponentLink3URL: http://www.microchip.com/stellent/groups/techpub_sg/documents/packagingspec/en012702.pdf
footprint SOT-23-CT5_N (SOT23, 5-Leads, Body 2.9x1.6mm, Pitch 0.95mm, Lead Span 2.7mm, IPC Medium Density)
footprint SOT-23-CT5_L (SOT23, 5-Leads, Body 2.9x1.6mm, Pitch 0.95mm, Lead Span 2.7mm, IPC High Density)
footprint SOT-23-CT5_M (SOT23, 5-Leads, Body 2.9x1.6mm, Pitch 0.95mm, Lead Span 2.7mm, IPC Low Density)
pins: 1 GND (power), 2 GND (power), 3 HYST (in), 4 VCC (power), 5 ~{TOVER} (oc)

## TC6501P085VCTTR
designator U?
Ultra Small Temperature Switches with Pin Selectable Hysteresis, 5-Pin SOT-23, -55°C to +125°C Temperature, Tape and Reel; Manufacturer: Microchip; PartNumber: TC6501P085VCTTR; DatasheetVersion: revD, Jan-2004; PackageVersion: revBB, Aug-2009; PackageReference: SOT-23-CT5; PackageDescription: 5-Lead Plastic Small Outline Transistor (CT) [SOT-23]; Supplier 1: Digi-Key; Supplier Part Number 1: TC6501P085VCTTR-ND; Supplier 2: Digi-Key; Supplier Part Number 2: TC6501P085VCTCT-ND; Supplier 3: Digi-Key; Supplier Part Number 3: TC6501P085VCTDKR-ND; Supplier 4: Farnell; Supplier Part Number 4: 1439496RL; Supplier 5: Farnell; Supplier Part Number 5: 1439496; Supplier 6: Newark; Supplier Part Number 6: 92C6379; Supplier 7: Mouser; Supplier Part Number 7: 579-TC6501P085VCTTR; Mounting Technology: Surface Mount; Code_IPC: SOT23-5; ComponentLink1Description: Manufacturer URL; ComponentLink1URL: http://www.microchip.com/; ComponentLink2Description: Datasheet; ComponentLink2URL: http://ww1.microchip.com/downloads/en/DeviceDoc/21451d.pdf; ComponentLink3Description: Package Specification; ComponentLink3URL: http://www.microchip.com/stellent/groups/techpub_sg/documents/packagingspec/en012702.pdf
footprint SOT-23-CT5_N (SOT23, 5-Leads, Body 2.9x1.6mm, Pitch 0.95mm, Lead Span 2.7mm, IPC Medium Density)
footprint SOT-23-CT5_L (SOT23, 5-Leads, Body 2.9x1.6mm, Pitch 0.95mm, Lead Span 2.7mm, IPC High Density)
footprint SOT-23-CT5_M (SOT23, 5-Leads, Body 2.9x1.6mm, Pitch 0.95mm, Lead Span 2.7mm, IPC Low Density)
pins: 1 GND (power), 2 GND (power), 3 HYST (in), 4 VCC (power), 5 ~{TOVER} (oc)

## TC6501P095VCTRT
designator U?
Ultra Small Temperature Switches with Pin Selectable Hysteresis, 5-Pin SOT-23; Manufacturer: Microchip; PartNumber: TC6501P095VCTRT; DatasheetVersion: revD, Jan-2004; PackageVersion: revBB, Aug-2009; PackageReference: SOT-23-CT5; PackageDescription: 5-Lead Plastic Small Outline Transistor (CT) [SOT-23]; Supplier 1: Digi-Key; Supplier Part Number 1: TC6501P095VCTRT-ND; Supplier 2: Mouser; Supplier Part Number 2: 579-TC6501P095VCTRT; Mounting Technology: Surface Mount; Code_IPC: SOT23-5; ComponentLink1Description: Manufacturer URL; ComponentLink1URL: http://www.microchip.com/; ComponentLink2Description: Datasheet; ComponentLink2URL: http://ww1.microchip.com/downloads/en/DeviceDoc/21451d.pdf; ComponentLink3Description: Package Specification; ComponentLink3URL: http://www.microchip.com/stellent/groups/techpub_sg/documents/packagingspec/en012702.pdf
footprint SOT-23-CT5_N (SOT23, 5-Leads, Body 2.9x1.6mm, Pitch 0.95mm, Lead Span 2.7mm, IPC Medium Density)
footprint SOT-23-CT5_L (SOT23, 5-Leads, Body 2.9x1.6mm, Pitch 0.95mm, Lead Span 2.7mm, IPC High Density)
footprint SOT-23-CT5_M (SOT23, 5-Leads, Body 2.9x1.6mm, Pitch 0.95mm, Lead Span 2.7mm, IPC Low Density)
pins: 1 GND (power), 2 GND (power), 3 HYST (in), 4 VCC (power), 5 ~{TOVER} (oc)

## TC6501P095VCTRTG
designator U?
Ultra Small Temperature Switch with Pin Selectable Hysteresis, 40 uA, 2.7 to 5.5 V, 5-pin SOT-23 (CT5), RVT/R; Manufacturer: Microchip; PartNumber: TC6501P095VCTRTG; DatasheetVersion: Rev. D; PackageVersion: C04-091B; PackageReference: SOT-23-CT5; PackageDescription: 5-Lead Plastic Small Outline Transistor, 2.9 x 1.55 mm Body, 0.95 mm Pitch; Supplier 1: Digi-Key; Supplier Part Number 1: TC6501P095VCTRTG-ND; Supplier 2: Newark; Supplier Part Number 2: 89H1714; Supplier 3: Mouser; Supplier Part Number 3: 579-TC6501P095VCTRTG; Mounting Technology: Surface Mount; ComponentLink1Description: Manufacturer URL; ComponentLink1URL: http://www.microchip.com; ComponentLink2Description: Datasheet; ComponentLink2URL: http://ww1.microchip.com/downloads/en/DeviceDoc/21451d.pdf; ComponentLink3Description: Package Specification; ComponentLink3URL: http://www.microchip.com/stellent/groups/techpub_sg/documents/packagingspec/en012702.pdf; ComponentLink4Description: Product URL; ComponentLink4URL: http://www.microchip.com/TC6501
footprint MCHP-SOT-23-CT5_N (SOT23, 5-Leads, Body 2.9x1.55mm, Pitch 0.95mm, IPC Medium Density)
footprint MCHP-SOT-23-CT5_L (SOT23, 5-Leads, Body 2.9x1.55mm, Pitch 0.95mm, IPC High Density)
footprint MCHP-SOT-23-CT5_M (SOT23, 5-Leads, Body 2.9x1.55mm, Pitch 0.95mm, IPC Low Density)
pins: 1 GND (power) "Ground", 2 GND (power) "Ground", 3 HYST (in) "Hysteresis Input", 4 VCC (power) "Supply Input (+2.7V to +5.5V)", 5 T~{OVER} (oc) "Open-Drain, Active-Low Output"

## TC6501P095VCTTR
designator U?
Ultra Small Temperature Switches with Pin Selectable Hysteresis, 5-Pin SOT-23, -55°C to +125°C Temperature, Tape and Reel; Manufacturer: Microchip; PartNumber: TC6501P095VCTTR; DatasheetVersion: revD, Jan-2004; PackageVersion: revBB, Aug-2009; PackageReference: SOT-23-CT5; PackageDescription: 5-Lead Plastic Small Outline Transistor (CT) [SOT-23]; Supplier 1: Digi-Key; Supplier Part Number 1: TC6501P095VCTTR-ND; Supplier 2: Digi-Key; Supplier Part Number 2: TC6501P095VCTCT-ND; Supplier 3: Digi-Key; Supplier Part Number 3: TC6501P095VCTDKR-ND; Supplier 4: Newark; Supplier Part Number 4: 92C6380; Supplier 5: Mouser; Supplier Part Number 5: 579-TC6501P095VCTTR; Mounting Technology: Surface Mount; Code_IPC: SOT23-5; ComponentLink1Description: Manufacturer URL; ComponentLink1URL: http://www.microchip.com/; ComponentLink2Description: Datasheet; ComponentLink2URL: http://ww1.microchip.com/downloads/en/DeviceDoc/21451d.pdf; ComponentLink3Description: Package Specification; ComponentLink3URL: http://www.microchip.com/stellent/groups/techpub_sg/documents/packagingspec/en012702.pdf
footprint SOT-23-CT5_N (SOT23, 5-Leads, Body 2.9x1.6mm, Pitch 0.95mm, Lead Span 2.7mm, IPC Medium Density)
footprint SOT-23-CT5_L (SOT23, 5-Leads, Body 2.9x1.6mm, Pitch 0.95mm, Lead Span 2.7mm, IPC High Density)
footprint SOT-23-CT5_M (SOT23, 5-Leads, Body 2.9x1.6mm, Pitch 0.95mm, Lead Span 2.7mm, IPC Low Density)
pins: 1 GND (power), 2 GND (power), 3 HYST (in), 4 VCC (power), 5 ~{TOVER} (oc)

## TC6501P105VCTTR
designator U?
Ultra Small Temperature Switches with Pin Selectable Hysteresis, 5-Pin SOT-23, -55°C to +125°C Temperature, Tape and Reel; Manufacturer: Microchip; PartNumber: TC6501P105VCTTR; DatasheetVersion: revD, Jan-2004; PackageVersion: revBB, Aug-2009; PackageReference: SOT-23-CT5; PackageDescription: 5-Lead Plastic Small Outline Transistor (CT) [SOT-23]; Supplier 1: Digi-Key; Supplier Part Number 1: TC6501P105VCTTR-ND; Supplier 2: Digi-Key; Supplier Part Number 2: TC6501P105VCTTCT-ND; Supplier 3: Digi-Key; Supplier Part Number 3: TC6501P105VCTTDKR-ND; Supplier 4: Farnell; Supplier Part Number 4: 1439497; Supplier 5: Newark; Supplier Part Number 5: 92C6381; Supplier 6: Mouser; Supplier Part Number 6: 579-TC6501P105VCTTR; Mounting Technology: Surface Mount; Code_IPC: SOT23-5; ComponentLink1Description: Manufacturer URL; ComponentLink1URL: http://www.microchip.com/; ComponentLink2Description: Datasheet; ComponentLink2URL: http://ww1.microchip.com/downloads/en/DeviceDoc/21451d.pdf; ComponentLink3Description: Package Specification; ComponentLink3URL: http://www.microchip.com/stellent/groups/techpub_sg/documents/packagingspec/en012702.pdf
footprint SOT-23-CT5_N (SOT23, 5-Leads, Body 2.9x1.6mm, Pitch 0.95mm, Lead Span 2.7mm, IPC Medium Density)
footprint SOT-23-CT5_L (SOT23, 5-Leads, Body 2.9x1.6mm, Pitch 0.95mm, Lead Span 2.7mm, IPC High Density)
footprint SOT-23-CT5_M (SOT23, 5-Leads, Body 2.9x1.6mm, Pitch 0.95mm, Lead Span 2.7mm, IPC Low Density)
pins: 1 GND (power), 2 GND (power), 3 HYST (in), 4 VCC (power), 5 ~{TOVER} (oc)

## TC6501P115VCTPBTR
designator U?
Ultra Small Temperature Switches with Pin Selectable Hysteresis, 5-Pin SOT-23, -55°C to +125°C Temperature, Tape and Reel; Manufacturer: Microchip; PartNumber: TC6501P115VCTPBTR; DatasheetVersion: revD, Jan-2004; PackageVersion: revBB, Aug-2009; PackageReference: SOT-23-CT5; PackageDescription: 5-Lead Plastic Small Outline Transistor (CT) [SOT-23]; Mounting Technology: Surface Mount; Code_IPC: SOT23-5; ComponentLink1Description: Manufacturer URL; ComponentLink1URL: http://www.microchip.com/; ComponentLink2Description: Datasheet; ComponentLink2URL: http://ww1.microchip.com/downloads/en/DeviceDoc/21451d.pdf; ComponentLink3Description: Package Specification; ComponentLink3URL: http://www.microchip.com/stellent/groups/techpub_sg/documents/packagingspec/en012702.pdf
footprint SOT-23-CT5_N (SOT23, 5-Leads, Body 2.9x1.6mm, Pitch 0.95mm, Lead Span 2.7mm, IPC Medium Density)
footprint SOT-23-CT5_L (SOT23, 5-Leads, Body 2.9x1.6mm, Pitch 0.95mm, Lead Span 2.7mm, IPC High Density)
footprint SOT-23-CT5_M (SOT23, 5-Leads, Body 2.9x1.6mm, Pitch 0.95mm, Lead Span 2.7mm, IPC Low Density)
pins: 1 GND (power), 2 GND (power), 3 HYST (in), 4 VCC (power), 5 ~{TOVER} (oc)

## TC6501P115VCTTR
designator U?
Ultra Small Temperature Switches with Pin Selectable Hysteresis, 5-Pin SOT-23, -55°C to +125°C Temperature, Tape and Reel; Manufacturer: Microchip; PartNumber: TC6501P115VCTTR; DatasheetVersion: revD, Jan-2004; PackageVersion: revBB, Aug-2009; PackageReference: SOT-23-CT5; PackageDescription: 5-Lead Plastic Small Outline Transistor (CT) [SOT-23]; Supplier 1: Digi-Key; Supplier Part Number 1: TC6501P115VCTTR-ND; Supplier 2: Digi-Key; Supplier Part Number 2: TC6501P115VCTTCT-ND; Supplier 3: Digi-Key; Supplier Part Number 3: TC6501P115VCTTDKR-ND; Supplier 4: Newark; Supplier Part Number 4: 92C6382; Supplier 5: Mouser; Supplier Part Number 5: 579-TC6501P115VCTTR; Mounting Technology: Surface Mount; Code_IPC: SOT23-5; ComponentLink1Description: Manufacturer URL; ComponentLink1URL: http://www.microchip.com/; ComponentLink2Description: Datasheet; ComponentLink2URL: http://ww1.microchip.com/downloads/en/DeviceDoc/21451d.pdf; ComponentLink3Description: Package Specification; ComponentLink3URL: http://www.microchip.com/stellent/groups/techpub_sg/documents/packagingspec/en012702.pdf
footprint SOT-23-CT5_N (SOT23, 5-Leads, Body 2.9x1.6mm, Pitch 0.95mm, Lead Span 2.7mm, IPC Medium Density)
footprint SOT-23-CT5_L (SOT23, 5-Leads, Body 2.9x1.6mm, Pitch 0.95mm, Lead Span 2.7mm, IPC High Density)
footprint SOT-23-CT5_M (SOT23, 5-Leads, Body 2.9x1.6mm, Pitch 0.95mm, Lead Span 2.7mm, IPC Low Density)
pins: 1 GND (power), 2 GND (power), 3 HYST (in), 4 VCC (power), 5 ~{TOVER} (oc)

## TC6501P120VCTTR
designator U?
Ultra Small Temperature Switches with Pin Selectable Hysteresis, 5-Pin SOT-23, -55°C to +125°C Temperature, Tape and Reel; Manufacturer: Microchip; PartNumber: TC6501P120VCTTR; DatasheetVersion: revD, Jan-2004; PackageVersion: revBB, Aug-2009; PackageReference: SOT-23-CT5; PackageDescription: 5-Lead Plastic Small Outline Transistor (CT) [SOT-23]; Supplier 1: Digi-Key; Supplier Part Number 1: TC6501P120VCTTR-ND; Supplier 2: Digi-Key; Supplier Part Number 2: TC6501P120VCTTCT-ND; Supplier 3: Digi-Key; Supplier Part Number 3: TC6501P120VCTTDKR-ND; Supplier 4: Newark; Supplier Part Number 4: 89H1718; Supplier 5: Mouser; Supplier Part Number 5: 579-TC6501P120VCTTR; Mounting Technology: Surface Mount; Code_IPC: SOT23-5; ComponentLink1Description: Manufacturer URL; ComponentLink1URL: http://www.microchip.com/; ComponentLink2Description: Datasheet; ComponentLink2URL: http://ww1.microchip.com/downloads/en/DeviceDoc/21451d.pdf; ComponentLink3Description: Package Specification; ComponentLink3URL: http://www.microchip.com/stellent/groups/techpub_sg/documents/packagingspec/en012702.pdf
footprint SOT-23-CT5_N (SOT23, 5-Leads, Body 2.9x1.6mm, Pitch 0.95mm, Lead Span 2.7mm, IPC Medium Density)
footprint SOT-23-CT5_L (SOT23, 5-Leads, Body 2.9x1.6mm, Pitch 0.95mm, Lead Span 2.7mm, IPC High Density)
footprint SOT-23-CT5_M (SOT23, 5-Leads, Body 2.9x1.6mm, Pitch 0.95mm, Lead Span 2.7mm, IPC Low Density)
pins: 1 GND (power), 2 GND (power), 3 HYST (in), 4 VCC (power), 5 ~{TOVER} (oc)

## TC6501P125VCTRT
designator U?
Ultra Small Temperature Switches with Pin Selectable Hysteresis, 5-Pin SOT-23; Manufacturer: Microchip; PartNumber: TC6501P125VCTRT; DatasheetVersion: revD, Jan-2004; PackageVersion: revBB, Aug-2009; PackageReference: SOT-23-CT5; PackageDescription: 5-Lead Plastic Small Outline Transistor (CT) [SOT-23]; Supplier 1: Digi-Key; Supplier Part Number 1: TC6501P125VCTRT-ND; Supplier 2: Newark; Supplier Part Number 2: 30H0447; Supplier 3: Mouser; Supplier Part Number 3: 579-TC6501P125VCTRT; Mounting Technology: Surface Mount; Code_IPC: SOT23-5; ComponentLink1Description: Manufacturer URL; ComponentLink1URL: http://www.microchip.com/; ComponentLink2Description: Datasheet; ComponentLink2URL: http://ww1.microchip.com/downloads/en/DeviceDoc/21451d.pdf; ComponentLink3Description: Package Specification; ComponentLink3URL: http://www.microchip.com/stellent/groups/techpub_sg/documents/packagingspec/en012702.pdf
footprint SOT-23-CT5_N (SOT23, 5-Leads, Body 2.9x1.6mm, Pitch 0.95mm, Lead Span 2.7mm, IPC Medium Density)
footprint SOT-23-CT5_L (SOT23, 5-Leads, Body 2.9x1.6mm, Pitch 0.95mm, Lead Span 2.7mm, IPC High Density)
footprint SOT-23-CT5_M (SOT23, 5-Leads, Body 2.9x1.6mm, Pitch 0.95mm, Lead Span 2.7mm, IPC Low Density)
pins: 1 GND (power), 2 GND (power), 3 HYST (in), 4 VCC (power), 5 ~{TOVER} (oc)

## TC6501P125VCTTR
designator U?
Ultra Small Temperature Switches with Pin Selectable Hysteresis, 5-Pin SOT-23, -55°C to +125°C Temperature, Tape and Reel; Manufacturer: Microchip; PartNumber: TC6501P125VCTTR; DatasheetVersion: revD, Jan-2004; PackageVersion: revBB, Aug-2009; PackageReference: SOT-23-CT5; PackageDescription: 5-Lead Plastic Small Outline Transistor (CT) [SOT-23]; Supplier 1: Digi-Key; Supplier Part Number 1: TC6501P125VCTTR-ND; Supplier 2: Digi-Key; Supplier Part Number 2: TC6501P125VCTCT-ND; Supplier 3: Digi-Key; Supplier Part Number 3: TC6501P125VCTDKR-ND; Supplier 4: Newark; Supplier Part Number 4: 92C6383; Supplier 5: Mouser; Supplier Part Number 5: 579-TC6501P125VCTTR; Mounting Technology: Surface Mount; Code_IPC: SOT23-5; ComponentLink1Description: Manufacturer URL; ComponentLink1URL: http://www.microchip.com/; ComponentLink2Description: Datasheet; ComponentLink2URL: http://ww1.microchip.com/downloads/en/DeviceDoc/21451d.pdf; ComponentLink3Description: Package Specification; ComponentLink3URL: http://www.microchip.com/stellent/groups/techpub_sg/documents/packagingspec/en012702.pdf
footprint SOT-23-CT5_N (SOT23, 5-Leads, Body 2.9x1.6mm, Pitch 0.95mm, Lead Span 2.7mm, IPC Medium Density)
footprint SOT-23-CT5_L (SOT23, 5-Leads, Body 2.9x1.6mm, Pitch 0.95mm, Lead Span 2.7mm, IPC High Density)
footprint SOT-23-CT5_M (SOT23, 5-Leads, Body 2.9x1.6mm, Pitch 0.95mm, Lead Span 2.7mm, IPC Low Density)
pins: 1 GND (power), 2 GND (power), 3 HYST (in), 4 VCC (power), 5 ~{TOVER} (oc)

## TC6502P045VCTTR
designator U?
Ultra Small Temperature Switches with Pin Selectable Hysteresis, 5-Pin SOT-23, -55°C to +125°C Temperature, Tape and Reel; Manufacturer: Microchip; PartNumber: TC6502P045VCTTR; DatasheetVersion: revD, Jan-2004; PackageVersion: revBB, Aug-2009; PackageReference: SOT-23-CT5; PackageDescription: 5-Lead Plastic Small Outline Transistor (CT) [SOT-23]; Supplier 1: Digi-Key; Supplier Part Number 1: TC6502P045VCTTR-ND; Supplier 2: Digi-Key; Supplier Part Number 2: TC6502P045VCTCT-ND; Supplier 3: Digi-Key; Supplier Part Number 3: TC6502P045VCTDKR-ND; Supplier 4: Newark; Supplier Part Number 4: 92C6384; Supplier 5: Mouser; Supplier Part Number 5: 579-TC6502P045VCTTR; Mounting Technology: Surface Mount; Code_IPC: SOT23-5; ComponentLink1Description: Manufacturer URL; ComponentLink1URL: http://www.microchip.com/; ComponentLink2Description: Datasheet; ComponentLink2URL: http://ww1.microchip.com/downloads/en/DeviceDoc/21451d.pdf; ComponentLink3Description: Package Specification; ComponentLink3URL: http://www.microchip.com/stellent/groups/techpub_sg/documents/packagingspec/en012702.pdf
footprint SOT-23-CT5_N (SOT23, 5-Leads, Body 2.9x1.6mm, Pitch 0.95mm, Lead Span 2.7mm, IPC Medium Density)
footprint SOT-23-CT5_L (SOT23, 5-Leads, Body 2.9x1.6mm, Pitch 0.95mm, Lead Span 2.7mm, IPC High Density)
footprint SOT-23-CT5_M (SOT23, 5-Leads, Body 2.9x1.6mm, Pitch 0.95mm, Lead Span 2.7mm, IPC Low Density)
pins: 1 GND (power), 2 GND (power), 3 HYST (in), 4 VCC (power), 5 TOVER (out)